# Altium integrated library MergenElektronik_Sensors_PressureSensors.IntLib: 1 symbol
Pins are listed as number, name and electrical type; pins without a type are passive.

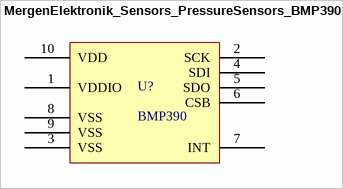
[diagram p0: symbol MergenElektronik_Sensors_PressureSensors_BMP390]

## MergenElektronik_Sensors_PressureSensors_BMP390
designator U?, comment BMP390
Mergen Elektronik - Sensors - Pressure Sensors - BMP390; Manufacturer: Bosch Sensortec; Operating Pressure: 4.35PSI ~ 18.13PSI (30kPa ~ 125kPa); Operrating Supply Voltage: 1.65V up to 3.6V; Output Type: I2C, SPI; Tolerance: ±0.01PSI (0.05kPa); Digi-Key Number: 828-BMP390TR-ND; Model: Pressure Sensor; Manufacturer Number: BMP390; Mounting Type: Surface Mount; Mouser Number: 262-BMP390; Package: 10-WFLGA; Value: BMP390; Özdisan Number: BMP390; Temperature: -40°C up to 85°C (TA); Supplier 1: Digikey; Supplier Number 1: 828-BMP390TR-ND; Supplier 2: Mouser; Supplier Number 2: 262-BMP390
footprint MergenElektronik_Sensors_PressureSensors_10-WFLGA (10-WFLGA)
pins: 1 VDDIO, 2 SCK, 3 VSS, 4 SDI, 5 SDO, 6 CSB, 7 INT, 8 VSS, 9 VSS, 10 VDD